# Altium footprint library elvis_lib.PcbLib: 50 footprints (part 3 of 4)
Each footprint in its own frame and in the unit in brackets; x right, y up, seen from the top. Pads: shape width x height; smd on the part's side, far side on the other; paste and mask are expansions set on the pad; w line width, h text height; cw(c..) or ccw(c..) is an arc to the next point about the centre after c.
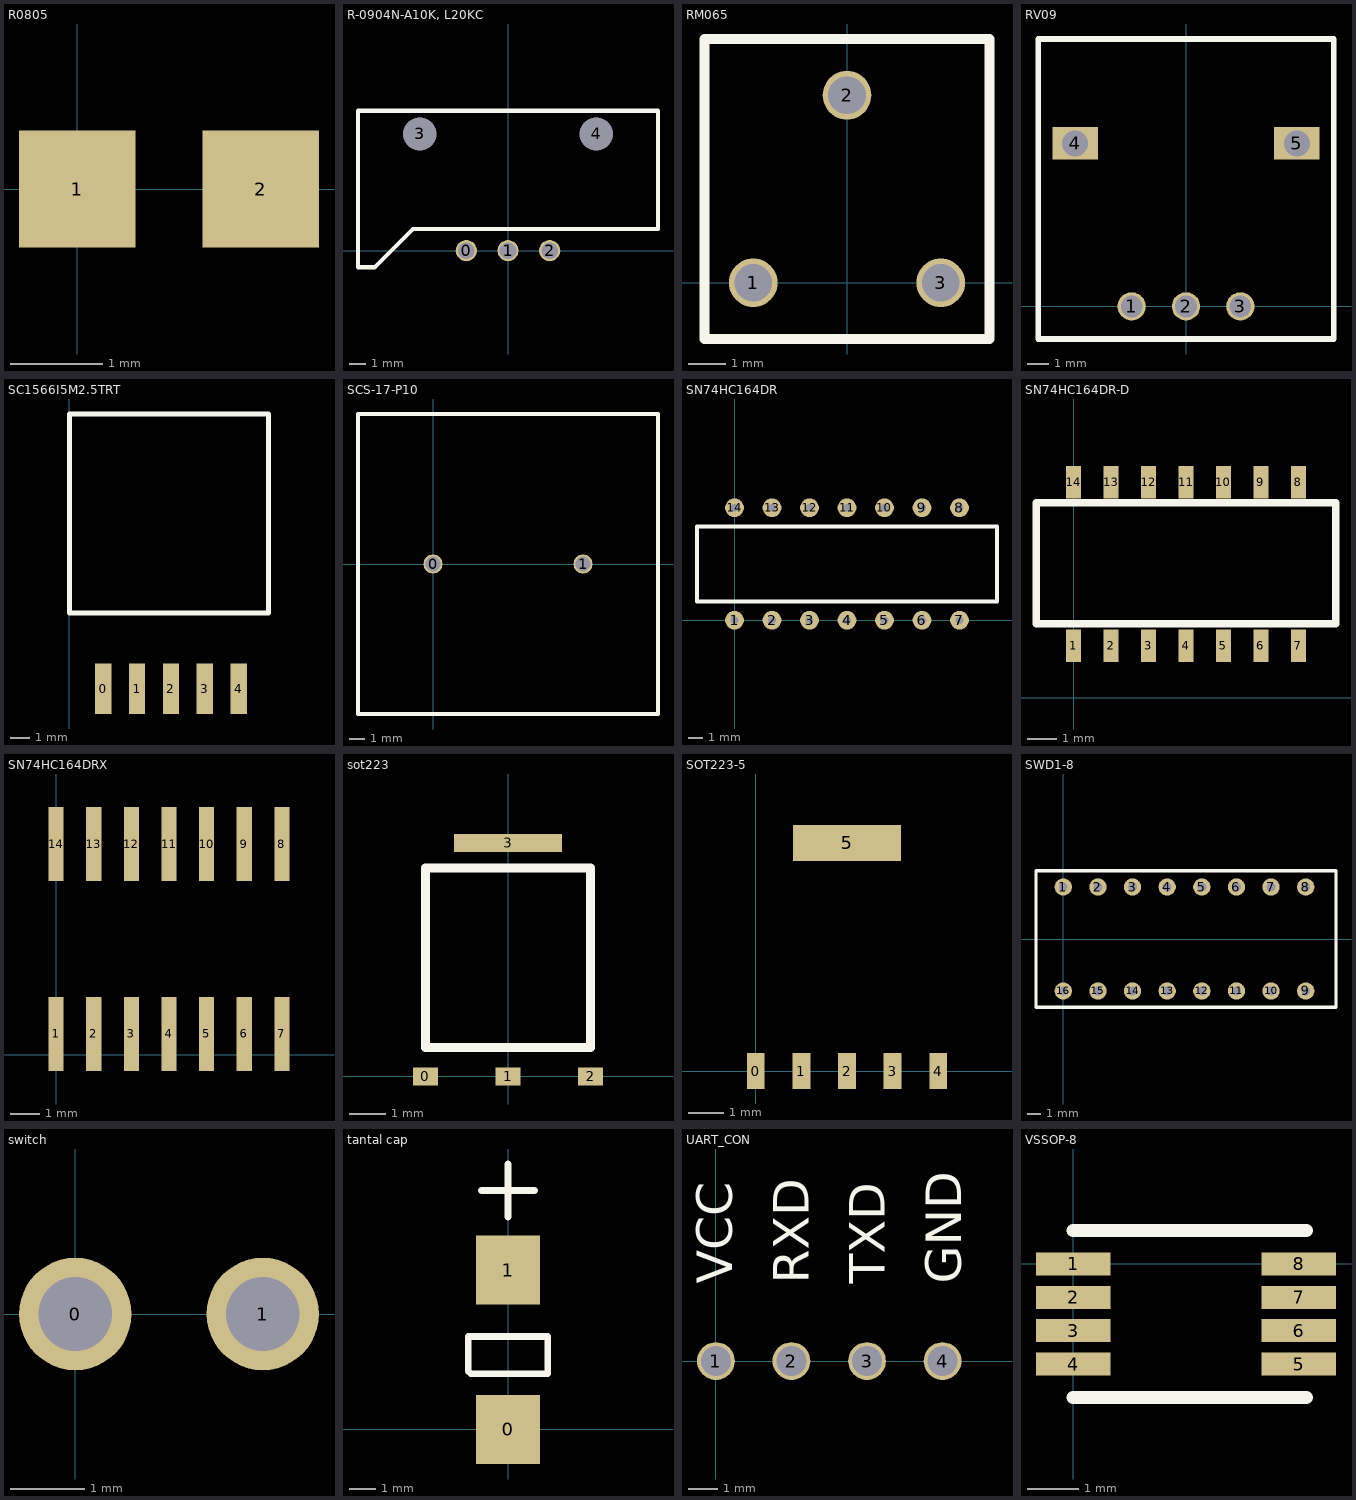
[diagram p2: the footprints below, top view; thin cyan lines are the x and y axes]

## R0805 [mm]
pads (2):
  rect 1.27x1.27 smd: 1(0,0) 2(2,0)

## R-0904N-A10K, L20KC [mm]
pads (5):
  round 1.27 hole 1: 0(-2.5,0) 1(0,0) 2(2.5,0)
  round 1.27 hole 2 square: 3(-5.3,7) 4(5.3,7)
Top Overlay:
  lines w0.254: -9,-1 -8,-1 -5.7,1.3 9,1.3 9,8.4 -9,8.4 -9,-1

## RM065 [mm] "trimming potentiometer"
pads (3):
  round 1.3 hole 1: 1(-2.5,0) 2(0,5) 3(2.5,0)
Top Overlay:
  lines w0.254: -3.8,-1.5 -3.8,6.5 3.8,6.5 3.8,-1.5 -3.8,-1.5

## RV09 [mm] "RV09 potentiometer"
pads (5):
  round 1.3 hole 1: 1(-2.5,0) 2(0,0) 3(2.5,0)
  rect 2.1x1.5 hole 1.2 square: 4(-5.1,7.5) 5(5.1,7.5)
Top Overlay:
  lines w0.254: -6.8,-1.5 -6.8,9 -6.8,12.3 -3.4,12.3 3.4,12.3 6.8,12.3 6.8,9 6.8,-1.5 -6.8,-1.5

## SC1566I5M2.5TRT [mm]
pads (5):
  rect 0.813x2.54 smd mask+0.05: 0(1.7,-23.8) 1(3.4,-23.8) 2(5.1,-23.8) 3(6.8,-23.8) 4(8.5,-23.8)
Top Overlay:
  lines w0.254: 0,-20 10,-20 10,-10 0,-10 0,-20

## SCS-17-P10 [mm]
pads (2):
  round 1.27 / inner oval 0.4x0.3 / far side round 1.27 hole 1 mask+0.05: 0(0,0) 1(10,0)
Top Overlay:
  lines w0.254: -5,-10 15,-10 15,10 -5,10 -5,-10

## SN74HC164DR [mm]
pads (14):
  round 1.27 / inner rect 0.8x2.54 / far side round 1.27 hole 0.54 square: 1(0,0) 2(2.54,0) 3(5.08,0) 4(7.62,0) 5(10.16,0) 6(12.7,0) 7(15.24,0) 8(15.24,7.62) 9(12.7,7.62) 10(10.16,7.62) 11(7.62,7.62) 12(5.08,7.62) 13(2.54,7.62) 14(0,7.62)
Top Overlay:
  lines w0.254: -2.54,1.27 -2.54,6.35 17.78,6.35 17.78,1.27 16.51,1.27 -2.54,1.27

## SN74HC164DR-D [mm]
pads (14):
  rect 0.51x1.1 smd mask+0.05: 1(0,1.75) 2(1.27,1.75) 3(2.54,1.75) 4(3.81,1.75) 5(5.08,1.75) 6(6.35,1.75) 7(7.62,1.75) 8(7.62,7.3) 9(6.35,7.3) 10(5.08,7.3) 11(3.81,7.3) 12(2.54,7.3) 13(1.27,7.3) 14(0,7.3)
Top Overlay:
  lines w0.254: -1.27,2.5 -1.27,6.6 8.89,6.6 8.89,2.5 -1.27,2.5

## SN74HC164DRX [mm]
pads (14):
  rect 0.51x2.5 smd mask+0.05: 1(0,0.7) 2(1.27,0.7) 3(2.54,0.7) 4(3.81,0.7) 5(5.08,0.7) 6(6.35,0.7) 7(7.62,0.7) 8(7.62,7.1) 9(6.35,7.1) 10(5.08,7.1) 11(3.81,7.1) 12(2.54,7.1) 13(1.27,7.1) 14(0,7.1)

## sot223 [mm]
pads (4):
  rect 0.7x0.5 smd mask+0.05: 0(-2.3,0) 1(0,0) 2(2.3,0)
  rect 3x0.5 smd mask+0.05: 3(0,6.5)
Top Overlay:
  lines w0.254: -2.3,0.8 2.3,0.8 2.3,5.8 -2.3,5.8 -2.3,0.8

## SOT223-5 [mm]
pads (6):
  rect 0.5x1 smd mask+0.05: 0(0,0) 1(1.27,0) 2(2.54,0) 3(3.81,0) 4(5.08,0)
  rect 3x1 smd mask+0.05: 5(2.54,6.35)

## SWD1-8 [mm]
pads (16):
  round 1.27 / inner round 0.8 / far side round 1.27 hole 0.65: 1(0,3.81) 2(2.54,3.81) 3(5.08,3.81) 4(7.62,3.81) 5(10.16,3.81) 6(12.7,3.81) 7(15.24,3.81) 8(17.78,3.81) 9(17.78,-3.81) 10(15.24,-3.81) 11(12.7,-3.81) 12(10.16,-3.81) 13(7.62,-3.81) 14(5.08,-3.81) 15(2.54,-3.81) 16(0,-3.81)
Top Overlay:
  lines w0.254: -2,-5 20,-5 20,5 -2,5 -2,-5

## switch [mil]
pads (2):
  round 60 hole 39.37 mask+1.97: 0(0,0) 1(100,0)

## tantal cap [mm]
pads (2):
  rect 2.4x2.6 smd mask+0.05: 0(0,0) 1(0,6)
Top Overlay:
  lines w0.254: -1,9 1,9 ; 0,8 0,10 ; -1.5,2.2 -1.4,2.1 1.5,2.1 1.5,3.5 -1.5,3.5 -1.5,2.2

## UART_CON [mm] "pls uart connector"
pads (4):
  round 1.27 / inner round 1.524 / far side round 1.27 hole 1: 1(0,0) 2(2.54,0) 3(5.08,0) 4(7.62,0)
Top Overlay:
  text "VCC" at 0.55,2.6 h1.2
  text "RXD" at 3.117,2.6 h1.2
  text "TXD" at 5.683,2.6 h1.2
  text "GND" at 8.25,2.6 h1.2

## VSSOP-8 [mm]
pads (8):
  rect 1.45x0.45 smd mask+0.05: 1(0,0) 2(0,-0.65) 3(0,-1.3) 4(0,-1.95) 5(4.4,-1.95) 6(4.4,-1.3) 7(4.4,-0.65) 8(4.4,0)
Top Overlay:
  lines w0.254: 0,-2.6 4.55,-2.6 ; 0,0.65 0.65,0.65 4.55,0.65